# EAGLE library part IS61WV5128EDBLL-* (library memory-issi-asynsram)
512k x 8 high- speed CMOS static RAM with ECC 10ns access time 3.6V power supply
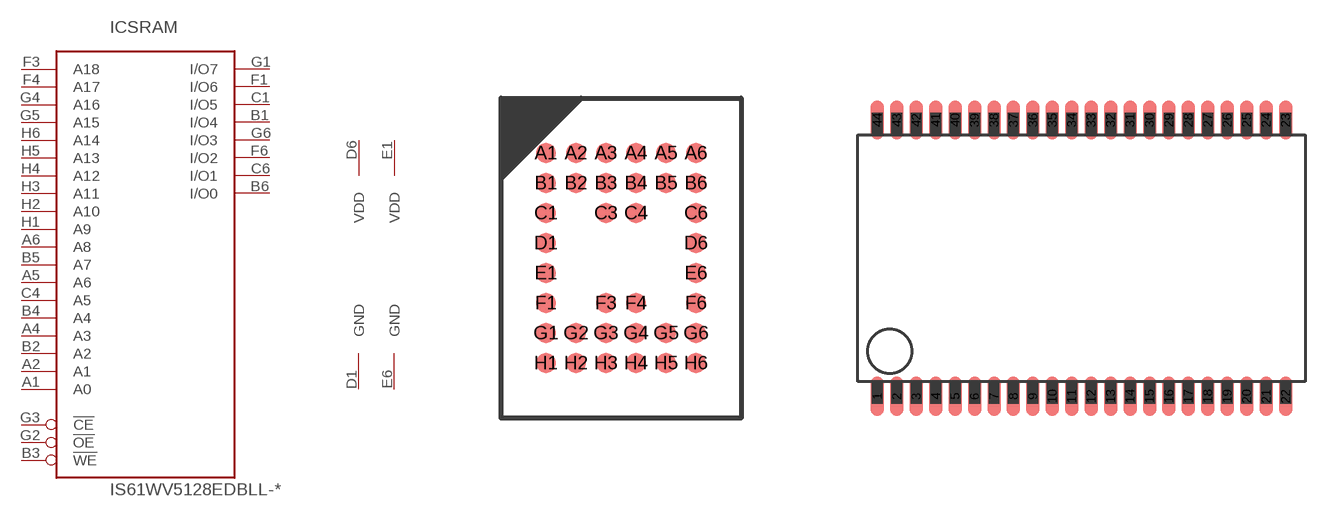
[diagram p45: symbol with the pads of TFBGA36_6X8; footprints TFBGA36_6X8, TSOP-II-44]

Designator prefix IC; gates PWR=PWR_VDD2_GND2 SRAM=512KX8_TYP1

## IS61WV5128EDBLL-10B  [TFBGA36_6X8]
A1  SRAM:A0  in
A2  SRAM:A1  in
A4  SRAM:A3  in
A5  SRAM:A6  in
A6  SRAM:A8  in
B1  SRAM:I/O4  hiz
B2  SRAM:A2  in
B3  SRAM:!WE  in
B4  SRAM:A4  in
B5  SRAM:A7  in
B6  SRAM:I/O0  hiz
C1  SRAM:I/O5  hiz
C4  SRAM:A5  in
C6  SRAM:I/O1  hiz
D1  PWR:GND  pwr
D6  PWR:VDD  pwr
E1  PWR:VDD  pwr
E6  PWR:GND  pwr
F1  SRAM:I/O6  hiz
F3  SRAM:A18  in
F4  SRAM:A17  in
F6  SRAM:I/O2  hiz
G1  SRAM:I/O7  hiz
G2  SRAM:!OE  in
G3  SRAM:!CE  in
G4  SRAM:A16  in
G5  SRAM:A15  in
G6  SRAM:I/O3  hiz
H1  SRAM:A9  in
H2  SRAM:A10  in
H3  SRAM:A11  in
H4  SRAM:A12  in
H5  SRAM:A13  in
H6  SRAM:A14  in

## IS61WV5128EDBLL-10T  [TSOP-II-44]
3  SRAM:A0  in
4  SRAM:A1  in
5  SRAM:A2  in
6  SRAM:A3  in
7  SRAM:A4  in
8  SRAM:!CE  in
9  SRAM:I/O0  hiz
10  SRAM:I/O1  hiz
11  PWR:VDD  pwr
12  PWR:GND  pwr
13  SRAM:I/O2  hiz
14  SRAM:I/O3  hiz
15  SRAM:!WE  in
16  SRAM:A5  in
17  SRAM:A6  in
18  SRAM:A7  in
19  SRAM:A8  in
20  SRAM:A9  in
26  SRAM:A10  in
27  SRAM:A11  in
28  SRAM:A12  in
29  SRAM:A13  in
30  SRAM:A14  in
31  SRAM:I/O4  hiz
32  SRAM:I/O5  hiz
33  PWR:VDD  pwr
34  PWR:GND  pwr
35  SRAM:I/O6  hiz
36  SRAM:I/O7  hiz
37  SRAM:!OE  in
38  SRAM:A15  in
39  SRAM:A16  in
40  SRAM:A17  in
41  SRAM:A18  in

## IS61WV5128EDBLL-10K  [SOJ36-400MIL]
1  SRAM:A0  in
2  SRAM:A1  in
3  SRAM:A2  in
4  SRAM:A3  in
5  SRAM:A4  in
6  SRAM:!CE  in
7  SRAM:I/O0  hiz
8  SRAM:I/O1  hiz
9  PWR:VDD  pwr
10  PWR:GND  pwr
11  SRAM:I/O2  hiz
12  SRAM:I/O3  hiz
13  SRAM:!WE  in
14  SRAM:A5  in
15  SRAM:A6  in
16  SRAM:A7  in
17  SRAM:A8  in
18  SRAM:A9  in
20  SRAM:A10  in
21  SRAM:A11  in
22  SRAM:A12  in
23  SRAM:A13  in
24  SRAM:A14  in
25  SRAM:I/O4  hiz
26  SRAM:I/O5  hiz
27  PWR:VDD  pwr
28  PWR:GND  pwr
29  SRAM:I/O6  hiz
30  SRAM:I/O7  hiz
31  SRAM:!OE  in
32  SRAM:A15  in
33  SRAM:A16  in
34  SRAM:A17  in
35  SRAM:A18  in

## IS61WV5128EDBLL-10CT  [TSOP-II-44]
Pads as for TSOP-II-44

## Footprint TFBGA36_6X8 (pad centres in mm)
TFBGA36 6 x 8 mm, 6 x 8-pin thin 0.75 mm pitch ball grid array package
smd 0.5 x 0.5: A1 -1.875,2.625; A2 -1.125,2.625; A3 -0.375,2.625; A4 0.375,2.625; A5 1.125,2.625; A6 1.875,2.625; B1 -1.875,1.875; B2 -1.125,1.875; B3 -0.375,1.875; B4 0.375,1.875; B5 1.125,1.875; B6 1.875,1.875; C1 -1.875,1.125; C3 -0.375,1.125; C4 0.375,1.125; C6 1.875,1.125; D1 -1.875,0.375; D6 1.875,0.375; E1 -1.875,-0.375; E6 1.875,-0.375; F1 -1.875,-1.125; F3 -0.375,-1.125; F4 0.375,-1.125; F6 1.875,-1.125; G1 -1.875,-1.875; G2 -1.125,-1.875; G3 -0.375,-1.875; G4 0.375,-1.875; G5 1.125,-1.875; G6 1.875,-1.875; H1 -1.875,-2.625; H2 -1.125,-2.625; H3 -0.375,-2.625; H4 0.375,-2.625; H5 1.125,-2.625; H6 1.875,-2.625

## Footprint TSOP-II-44 (pad centres in mm)
TSOP-II-44 44-pin thin small-outline package, Typ II
smd 0.55 x 1.6: 1 -8.4,-5.68; 2 -7.6,-5.68; 3 -6.8,-5.68; 4 -6,-5.68; 5 -5.2,-5.68; 6 -4.4,-5.68; 7 -3.6,-5.68; 8 -2.8,-5.68; 9 -2,-5.68; 10 -1.2,-5.68; 11 -0.4,-5.68; 12 0.4,-5.68; 13 1.2,-5.68; 14 2,-5.68; 15 2.8,-5.68; 16 3.6,-5.68; 17 4.4,-5.68; 18 5.2,-5.68; 19 6,-5.68; 20 6.8,-5.68; 21 7.6,-5.68; 22 8.4,-5.68; 23 8.4,5.68; 24 7.6,5.68; 25 6.8,5.68; 26 6,5.68; 27 5.2,5.68; 28 4.4,5.68; 29 3.6,5.68; 30 2.8,5.68; 31 2,5.68; 32 1.2,5.68; 33 0.4,5.68; 34 -0.4,5.68; 35 -1.2,5.68; 36 -2,5.68; 37 -2.8,5.68; 38 -3.6,5.68; 39 -4.4,5.68; 40 -5.2,5.68; 41 -6,5.68; 42 -6.8,5.68; 43 -7.6,5.68; 44 -8.4,5.68

## Footprint SOJ36-400MIL (pad centres in mm)
SOJ36-400mil 36-pin small-outline J-lead
smd 0.7 x 1.9: 1 -10.795,-4.7; 2 -9.525,-4.7; 3 -8.255,-4.7; 4 -6.985,-4.7; 5 -5.715,-4.7; 6 -4.445,-4.7; 7 -3.175,-4.7; 8 -1.905,-4.7; 9 -0.635,-4.7; 10 0.635,-4.7; 11 1.905,-4.7; 12 3.175,-4.7; 13 4.445,-4.7; 14 5.715,-4.7; 15 6.985,-4.7; 16 8.255,-4.7; 17 9.525,-4.7; 18 10.795,-4.7; 19 10.795,4.7; 20 9.525,4.7; 21 8.255,4.7; 22 6.985,4.7; 23 5.715,4.7; 24 4.445,4.7; 25 3.175,4.7; 26 1.905,4.7; 27 0.635,4.7; 28 -0.635,4.7; 29 -1.905,4.7; 30 -3.175,4.7; 31 -4.445,4.7; 32 -5.715,4.7; 33 -6.985,4.7; 34 -8.255,4.7; 35 -9.525,4.7; 36 -10.795,4.7